# Altium footprint library con-erni.PCBLIB: 13 footprints (part 1 of 2)
Each footprint in its own frame and in the unit in brackets; x right, y up, seen from the top. Pads: shape width x height; smd on the part's side, far side on the other; paste and mask are expansions set on the pad; w line width, h text height; cw(c..) or ccw(c..) is an arc to the next point about the centre after c.
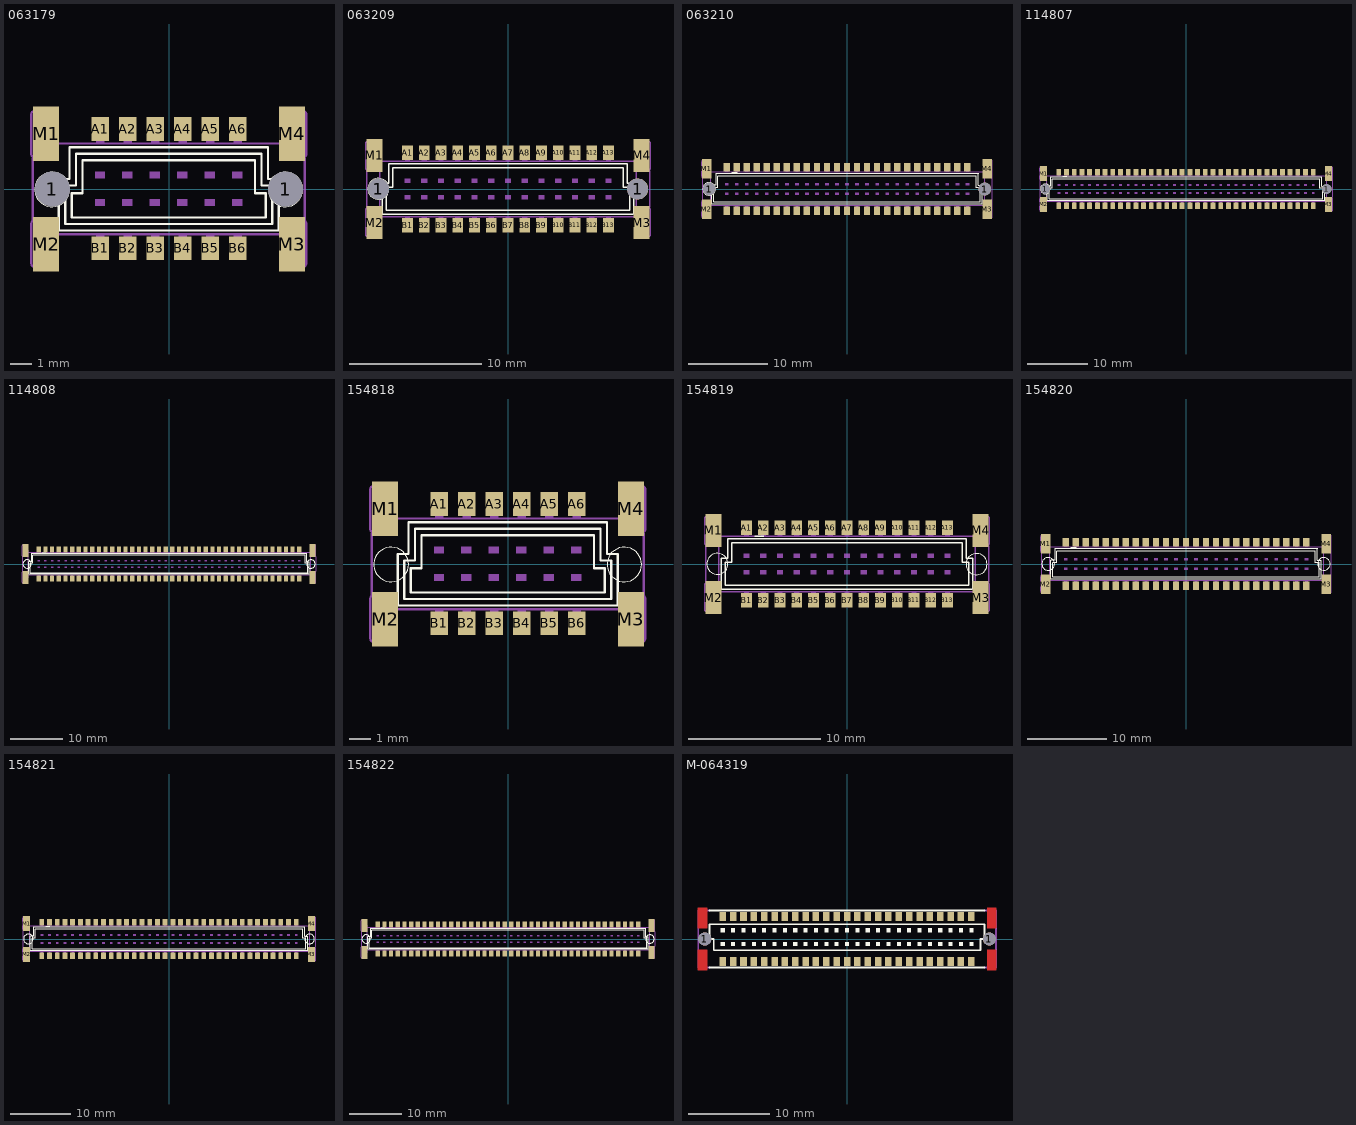
[diagram p0: the footprints below, top view; thin cyan lines are the x and y axes]

## 063179 [mil]
pads (18):
  round 62.99 hole 62.99: 1(-212.01,0) 1(212.01,0)
  rect 31.5x43.31 smd: A1(-125,108.86) A2(-75,108.86) A3(-25,108.86) A4(25,108.86) A5(75,108.86) A6(125,108.86) B1(-125,-107.87) B2(-75,-107.87) B3(-25,-107.87) B4(25,-107.87) B5(75,-107.87) B6(125,-107.87)
  rect 47.24x98.43 smd: M1(-223.62,100.39) M2(-223.62,-100.39) M3(223.62,-100.39) M4(223.62,100.39)
Top Overlay:
  circle w0.04: c211.54,-0.87 r31.49
  circle w0.04: c-212.42,-0.87 r31.49
  lines w4: -200.64,17.97 -200.64,-75.53 199.75,-75.53 199.75,17.97 ; -200.66,17.98 -180.97,17.98 ; -180.96,17.97 -180.96,76.04 179.86,76.04 ; -177.04,-7.62 -157.35,-7.62 -157.35,52.43 156.46,52.43 ; -177.02,-7.62 -177.02,-51.91 176.13,-51.91 176.13,-7.62 ; 156.45,52.42 156.45,-7.62 176.13,-7.62 ; 180.09,76.05 180.09,17.98 199.78,17.98 ; 176.15,-7.62 176.13,-7.62 ; -188.85,-63.73 187.96,-63.73 187.96,6.16 168.28,6.16 168.28,64.24 -169.16,64.24 -169.14,6.16 -188.85,6.16 -188.85,-63.73
Mechanical 16:
  region: 132.68,-84.25 116.93,-84.25 116.93,-117.72 132.68,-117.72
  region: -117.32,-84.25 -133.07,-84.25 -133.07,-117.72 -117.32,-117.72
  region: -116.34,-18.31 -135.04,-18.31 -135.04,-31.1 -116.34,-31.1
  region: -116.34,31.89 -135.04,31.89 -135.04,19.09 -116.34,19.09
  region: 132.68,118.5 116.93,118.5 116.93,84.45 132.68,84.45
  region: -117.32,118.5 -133.07,118.5 -133.07,84.45 -117.32,84.45
  region: -66.34,31.89 -85.04,31.89 -85.04,19.09 -66.34,19.09
  region: -16.34,31.89 -35.04,31.89 -35.04,19.09 -16.34,19.09
  region: 33.66,31.89 14.96,31.89 14.96,19.09 33.66,19.09
  region: 83.66,31.89 64.96,31.89 64.96,19.09 83.66,19.09
  region: 133.66,31.89 114.96,31.89 114.96,19.09 133.66,19.09
  region: -66.34,-18.31 -85.04,-18.31 -85.04,-31.1 -66.34,-31.1
  region: -16.34,-18.31 -35.04,-18.31 -35.04,-31.1 -16.34,-31.1
  region: 33.66,-18.31 14.96,-18.31 14.96,-31.1 33.66,-31.1
  region: 83.66,-18.31 64.96,-18.31 64.96,-31.1 83.66,-31.1
  region: 133.66,-18.31 114.96,-18.31 114.96,-31.1 133.66,-31.1
  region: -67.32,118.5 -83.07,118.5 -83.07,84.45 -67.32,84.45
  region: -17.32,118.5 -33.07,118.5 -33.07,84.45 -17.32,84.45
  region: 32.68,118.5 16.93,118.5 16.93,84.45 32.68,84.45
  region: 82.68,118.5 66.93,118.5 66.93,84.45 82.68,84.45
  region: -67.32,-84.25 -83.07,-84.25 -83.07,-117.72 -67.32,-117.72
  region: -17.32,-84.25 -33.07,-84.25 -33.07,-117.72 -17.32,-117.72
  region: 32.68,-84.25 16.93,-84.25 16.93,-117.72 32.68,-117.72
  region: 82.68,-84.25 66.93,-84.25 66.93,-117.72 82.68,-117.72
  lines w4: -247.91,-54.87 -247.91,55.38 ; -244.54,-56.83 ccw(c-244.53,-62.73) -250.44,-62.74 -250.44,-135.57 ccw(c-244.53,-135.57) -244.54,-141.48 -216.98,-141.48 ccw(c-216.98,-135.57) -211.07,-135.57 -211.07,-127.7 ccw(c-216.98,-127.7) -216.98,-121.79 ; -244.54,57.34 cw(c-244.53,63.24) -250.44,63.25 -250.44,136.08 cw(c-244.53,136.09) -244.54,141.99 -216.98,141.99 cw(c-216.98,136.08) -211.07,136.08 -211.07,128.21 cw(c-216.98,128.21) -216.98,122.3 ; -217,-121.68 cw(c-218.16,-115.89) -224.06,-115.89 -224.07,-109.98 -208.32,-109.98 -208.32,-66.67 ; -217,122.19 ccw(c-218.17,116.41) -224.06,116.4 -224.07,110.49 -208.32,110.49 -208.32,67.19 ; -204.2,-82.43 203.32,-82.43 ; -204.2,82.94 203.32,82.94 ; 207.43,-66.67 207.43,-109.98 223.18,-109.98 223.18,-115.89 cw(c217.28,-115.89) 216.11,-121.68 ; 207.43,67.19 207.43,110.49 223.18,110.49 223.18,116.4 ccw(c217.28,116.4) 216.11,122.19 ; 216.09,-121.79 ccw(c216.09,-127.69) 210.19,-127.7 210.19,-135.57 ccw(c216.09,-135.57) 216.09,-141.48 243.65,-141.48 ccw(c243.65,-135.57) 249.56,-135.57 249.56,-62.74 ccw(c243.65,-62.74) 243.65,-56.83 ; 216.09,122.3 cw(c216.09,128.21) 210.19,128.21 210.19,136.08 cw(c216.09,136.09) 216.09,141.99 243.65,141.99 cw(c243.65,136.08) 249.56,136.08 249.56,63.25 cw(c243.65,63.25) 243.65,57.34 ; 247.02,-54.87 247.02,55.38

## 063209 [mil]
pads (32):
  round 62.99 hole 62.99: 1(-387.01,0) 1(387.01,0)
  rect 31.5x43.31 smd: A1(-300,108.86) A2(-250,108.86) A3(-200,108.86) A4(-150,108.86) A5(-100,108.86) A6(-50,108.86) A7(0,108.86) A8(50,108.86) A9(100,108.86) A10(150,108.86) A11(200,108.86) A12(250,108.86) A13(300,108.86) B1(-300,-107.87) B2(-250,-107.87) B3(-200,-107.87) B4(-150,-107.87) B5(-100,-107.87) B6(-50,-107.87) B7(0,-107.87) B8(50,-107.87) B9(100,-107.87) B10(150,-107.87) B11(200,-107.87) B12(250,-107.87) B13(300,-107.87)
  rect 47.24x98.43 smd: M1(-398.62,100.39) M2(-398.62,-100.39) M3(398.62,-100.39) M4(398.62,100.39)
Top Overlay:
  circle w0.04: c-386.87,0.32 r31.5
  lines w4: -343.58,5.94 -363.23,5.94 ; -343.54,5.94 -343.54,64 343.43,64 ; 343.82,64.01 343.82,5.94 363.51,5.94 363.51,-63.94 ; 355.6,17.75 355.6,75.81 ; 355.63,17.75 375.32,17.75 375.32,-75.76 ; 355.63,75.82 -355.39,75.82 -355.39,17.75 -375.04,17.75 -375.04,-75.75 374.53,-75.75 ; 363.47,-63.94 -363.23,-63.94 -363.23,5.94 ; -363.23,5.94 -363.26,5.94
Mechanical 16:
  region: -290.35,-18.31 -309.06,-18.31 -309.06,-31.1 -290.35,-31.1
  region: -290.35,30.91 -309.06,30.91 -309.06,18.11 -290.35,18.11
  region: -240.35,-18.31 -259.06,-18.31 -259.06,-31.1 -240.35,-31.1
  region: -240.35,30.91 -259.06,30.91 -259.06,18.11 -240.35,18.11
  region: -190.35,-18.31 -209.06,-18.31 -209.06,-31.1 -190.35,-31.1
  region: -190.35,30.91 -209.06,30.91 -209.06,18.11 -190.35,18.11
  region: -140.35,-18.31 -159.06,-18.31 -159.06,-31.1 -140.35,-31.1
  region: -140.35,30.91 -159.06,30.91 -159.06,18.11 -140.35,18.11
  region: -90.35,-18.31 -109.06,-18.31 -109.06,-31.1 -90.35,-31.1
  region: -90.35,30.91 -109.06,30.91 -109.06,18.11 -90.35,18.11
  region: -40.35,-18.31 -59.06,-18.31 -59.06,-31.1 -40.35,-31.1
  region: -40.35,30.91 -59.06,30.91 -59.06,18.11 -40.35,18.11
  region: 9.65,-18.31 -9.06,-18.31 -9.06,-31.1 9.65,-31.1
  region: 9.65,30.91 -9.06,30.91 -9.06,18.11 9.65,18.11
  region: 59.65,-18.31 40.94,-18.31 40.94,-31.1 59.65,-31.1
  region: 59.65,30.91 40.94,30.91 40.94,18.11 59.65,18.11
  region: 109.65,-18.31 90.94,-18.31 90.94,-31.1 109.65,-31.1
  region: 109.65,30.91 90.94,30.91 90.94,18.11 109.65,18.11
  region: 159.65,-18.31 140.94,-18.31 140.94,-31.1 159.65,-31.1
  region: 159.65,30.91 140.94,30.91 140.94,18.11 159.65,18.11
  region: 209.65,-18.31 190.94,-18.31 190.94,-31.1 209.65,-31.1
  region: 209.65,30.91 190.94,30.91 190.94,18.11 209.65,18.11
  region: 259.65,-18.31 240.94,-18.31 240.94,-31.1 259.65,-31.1
  region: 259.65,30.91 240.94,30.91 240.94,18.11 259.65,18.11
  region: 309.65,-18.31 290.94,-18.31 290.94,-31.1 309.65,-31.1
  region: 309.65,30.91 290.94,30.91 290.94,18.11 309.65,18.11
  region: -291.93,-82.68 -307.68,-82.68 -307.68,-117.72 -291.93,-117.72
  region: -291.93,118.5 -307.68,118.5 -307.68,83.66 -291.93,83.66
  region: -241.93,-82.68 -257.68,-82.68 -257.68,-117.72 -241.93,-117.72
  region: -241.93,118.5 -257.68,118.5 -257.68,83.66 -241.93,83.66
  region: -191.93,-82.68 -207.68,-82.68 -207.68,-117.72 -191.93,-117.72
  region: -191.93,118.5 -207.68,118.5 -207.68,83.66 -191.93,83.66
  region: -141.93,-82.68 -157.68,-82.68 -157.68,-117.72 -141.93,-117.72
  region: -141.93,118.5 -157.68,118.5 -157.68,83.66 -141.93,83.66
  region: -91.93,-82.68 -107.68,-82.68 -107.68,-117.72 -91.93,-117.72
  region: -91.93,118.5 -107.68,118.5 -107.68,83.66 -91.93,83.66
  region: -41.93,-82.68 -57.68,-82.68 -57.68,-117.72 -41.93,-117.72
  region: -41.93,118.5 -57.68,118.5 -57.68,83.66 -41.93,83.66
  region: 8.07,-82.68 -7.68,-82.68 -7.68,-117.72 8.07,-117.72
  region: 8.07,118.5 -7.68,118.5 -7.68,83.66 8.07,83.66
  region: 58.07,-82.68 42.32,-82.68 42.32,-117.72 58.07,-117.72
  region: 58.07,118.5 42.32,118.5 42.32,83.66 58.07,83.66
  region: 108.07,-82.68 92.32,-82.68 92.32,-117.72 108.07,-117.72
  region: 108.07,118.5 92.32,118.5 92.32,83.66 108.07,83.66
  region: 158.07,-82.68 142.32,-82.68 142.32,-117.72 158.07,-117.72
  region: 158.07,118.5 142.32,118.5 142.32,83.66 158.07,83.66
  region: 208.07,-82.68 192.32,-82.68 192.32,-117.72 208.07,-117.72
  region: 208.07,118.5 192.32,118.5 192.32,83.66 208.07,83.66
  region: 258.07,-82.68 242.32,-82.68 242.32,-117.72 258.07,-117.72
  region: 258.07,118.5 242.32,118.5 242.32,83.66 258.07,83.66
  region: 308.07,-82.68 292.32,-82.68 292.32,-117.72 308.07,-117.72
  region: 308.07,118.5 292.32,118.5 292.32,83.66 308.07,83.66
  lines w4: -422.32,-55.09 -422.32,55.15 ; -419.17,-57.06 ccw(c-419.17,-62.96) -425.07,-62.96 -425.07,-135.8 ccw(c-419.17,-135.8) -419.17,-141.7 -391.61,-141.7 ccw(c-391.61,-135.79) -385.7,-135.8 -385.7,-127.92 ccw(c-391.61,-127.92) -391.61,-122.02 ; -419.17,57.12 cw(c-419.17,63.02) -425.07,63.02 -425.07,135.86 cw(c-419.17,135.86) -419.17,141.76 -391.61,141.76 cw(c-391.61,135.85) -385.7,135.86 -385.7,127.98 cw(c-391.61,127.98) -391.61,122.08 ; -392.79,-122.02 cw(c-392.79,-116.11) -392.79,-110.2 ; -392.79,110.27 cw(c-392.79,116.17) -392.79,122.08 ; -390.82,-110.2 -382.95,-102.33 -382.95,102.39 -390.82,110.27 ; -378.62,-82.65 378.86,-82.65 ; -378.62,82.71 378.86,82.71 ; 391.07,-110.2 383.19,-102.33 383.19,102.39 391.07,110.27 ; 391.85,-122.02 ccw(c391.85,-127.92) 385.95,-127.92 385.95,-135.8 ccw(c391.85,-135.8) 391.85,-141.7 419.41,-141.7 ccw(c419.42,-135.79) 425.32,-135.8 425.32,-62.96 ccw(c419.42,-62.97) 419.41,-57.06 ; 391.85,122.08 cw(c391.85,127.98) 385.95,127.98 385.95,135.86 cw(c391.85,135.86) 391.85,141.76 419.41,141.76 cw(c419.42,135.85) 425.32,135.86 425.32,63.02 cw(c419.42,63.02) 419.41,57.12 ; 393.04,-122.02 ccw(c393.04,-116.11) 393.04,-110.2 ; 393.04,110.27 ccw(c393.04,116.17) 393.04,122.08 ; 422.56,-55.09 422.56,55.15

## 063210 [mil]
pads (56):
  round 62.99 hole 62.99: 1(-687.01,0) 1(687.01,0)
  rect 31.5x43.31 smd: A1(-600,108.86) A2(-550,108.86) A3(-500,108.86) A4(-450,108.86) A5(-400,108.86) A6(-350,108.86) A7(-300,108.86) A8(-250,108.86) A9(-200,108.86) A10(-150,108.86) A11(-100,108.86) A12(-50,108.86) A13(0,108.86) A14(50,108.86) A15(100,108.86) A16(150,108.86) A17(200,108.86) A18(250,108.86) A19(300,108.86) A20(350,108.86) A21(400,108.86) A22(450,108.86) A23(500,108.86) A24(550,108.86) A25(600,108.86) B1(-600,-107.87) B2(-550,-107.87) B3(-500,-107.87) B4(-450,-107.87) B5(-400,-107.87) B6(-350,-107.87) B7(-300,-107.87) B8(-250,-107.87) B9(-200,-107.87) B10(-150,-107.87) B11(-100,-107.87) B12(-50,-107.87) B13(0,-107.87) B14(50,-107.87) B15(100,-107.87) B16(150,-107.87) B17(200,-107.87) B18(250,-107.87) B19(300,-107.87) B20(350,-107.87) B21(400,-107.87) B22(450,-107.87) B23(500,-107.87) B24(550,-107.87) B25(600,-107.87)
  rect 47.24x98.43 smd: M1(-698.62,100.39) M2(-698.62,-100.39) M3(698.62,-100.39) M4(698.62,100.39)
Top Overlay:
  circle w0.04: c-686.87,0.32 r31.5
  lines w4: -643.58,5.94 -663.23,5.94 ; -643.54,5.94 -643.54,64 643.43,64 ; -575.47,82.71 -547.91,82.71 ; 643.82,64.01 643.82,5.94 663.51,5.94 663.51,-63.94 ; 655.6,75.81 655.6,17.75 675.28,17.75 675.32,-75.76 ; 655.63,75.82 -655.39,75.82 -655.39,17.75 -675.04,17.75 -675.04,-75.75 674.53,-75.75 ; 663.47,-63.94 -663.23,-63.94 -663.23,5.94 ; -663.23,5.94 -663.26,5.94
Mechanical 16:
  region: -590.35,-18.31 -609.06,-18.31 -609.06,-31.1 -590.35,-31.1
  region: -590.35,30.91 -609.06,30.91 -609.06,18.11 -590.35,18.11
  region: -540.35,-18.31 -559.06,-18.31 -559.06,-31.1 -540.35,-31.1
  region: -540.35,30.91 -559.06,30.91 -559.06,18.11 -540.35,18.11
  region: -490.35,-18.31 -509.06,-18.31 -509.06,-31.1 -490.35,-31.1
  region: -490.35,30.91 -509.06,30.91 -509.06,18.11 -490.35,18.11
  region: -440.35,-18.31 -459.06,-18.31 -459.06,-31.1 -440.35,-31.1
  region: -440.35,30.91 -459.06,30.91 -459.06,18.11 -440.35,18.11
  region: -390.35,-18.31 -409.06,-18.31 -409.06,-31.1 -390.35,-31.1
  region: -390.35,30.91 -409.06,30.91 -409.06,18.11 -390.35,18.11
  region: -340.35,-18.31 -359.06,-18.31 -359.06,-31.1 -340.35,-31.1
  region: -340.35,30.91 -359.06,30.91 -359.06,18.11 -340.35,18.11
  region: -290.35,-18.31 -309.06,-18.31 -309.06,-31.1 -290.35,-31.1
  region: -290.35,30.91 -309.06,30.91 -309.06,18.11 -290.35,18.11
  region: -240.35,-18.31 -259.06,-18.31 -259.06,-31.1 -240.35,-31.1
  region: -240.35,30.91 -259.06,30.91 -259.06,18.11 -240.35,18.11
  region: -190.35,-18.31 -209.06,-18.31 -209.06,-31.1 -190.35,-31.1
  region: -190.35,30.91 -209.06,30.91 -209.06,18.11 -190.35,18.11
  region: -140.35,-18.31 -159.06,-18.31 -159.06,-31.1 -140.35,-31.1
  region: -140.35,30.91 -159.06,30.91 -159.06,18.11 -140.35,18.11
  region: -90.35,-18.31 -109.06,-18.31 -109.06,-31.1 -90.35,-31.1
  region: -90.35,30.91 -109.06,30.91 -109.06,18.11 -90.35,18.11
  region: -40.35,-18.31 -59.06,-18.31 -59.06,-31.1 -40.35,-31.1
  region: -40.35,30.91 -59.06,30.91 -59.06,18.11 -40.35,18.11
  region: 9.65,-18.31 -9.06,-18.31 -9.06,-31.1 9.65,-31.1
  region: 9.65,30.91 -9.06,30.91 -9.06,18.11 9.65,18.11
  region: 59.65,-18.31 40.94,-18.31 40.94,-31.1 59.65,-31.1
  region: 59.65,30.91 40.94,30.91 40.94,18.11 59.65,18.11
  region: 109.65,-18.31 90.94,-18.31 90.94,-31.1 109.65,-31.1
  region: 109.65,30.91 90.94,30.91 90.94,18.11 109.65,18.11
  region: 159.65,-18.31 140.94,-18.31 140.94,-31.1 159.65,-31.1
  region: 159.65,30.91 140.94,30.91 140.94,18.11 159.65,18.11
  region: 209.65,-18.31 190.94,-18.31 190.94,-31.1 209.65,-31.1
  region: 209.65,30.91 190.94,30.91 190.94,18.11 209.65,18.11
  region: 259.65,-18.31 240.94,-18.31 240.94,-31.1 259.65,-31.1
  region: 259.65,30.91 240.94,30.91 240.94,18.11 259.65,18.11
  region: 309.65,-18.31 290.94,-18.31 290.94,-31.1 309.65,-31.1
  region: 309.65,30.91 290.94,30.91 290.94,18.11 309.65,18.11
  region: 359.65,-18.31 340.94,-18.31 340.94,-31.1 359.65,-31.1
  region: 359.65,30.91 340.94,30.91 340.94,18.11 359.65,18.11
  region: 409.65,-18.31 390.94,-18.31 390.94,-31.1 409.65,-31.1
  region: 409.65,30.91 390.94,30.91 390.94,18.11 409.65,18.11
  region: 459.65,-18.31 440.94,-18.31 440.94,-31.1 459.65,-31.1
  region: 459.65,30.91 440.94,30.91 440.94,18.11 459.65,18.11
  region: 509.65,-18.31 490.94,-18.31 490.94,-31.1 509.65,-31.1
  region: 509.65,30.91 490.94,30.91 490.94,18.11 509.65,18.11
  region: 559.65,-18.31 540.94,-18.31 540.94,-31.1 559.65,-31.1
  region: 559.65,30.91 540.94,30.91 540.94,18.11 559.65,18.11
  region: 609.65,-18.31 590.94,-18.31 590.94,-31.1 609.65,-31.1
  region: 609.65,30.91 590.94,30.91 590.94,18.11 609.65,18.11
  region: -591.93,-82.68 -607.68,-82.68 -607.68,-117.72 -591.93,-117.72
  region: -591.93,118.5 -607.68,118.5 -607.68,83.66 -591.93,83.66
  region: -541.93,-82.68 -557.68,-82.68 -557.68,-117.72 -541.93,-117.72
  region: -541.93,118.5 -557.68,118.5 -557.68,83.66 -541.93,83.66
  region: -491.93,-82.68 -507.68,-82.68 -507.68,-117.72 -491.93,-117.72
  region: -491.93,118.5 -507.68,118.5 -507.68,83.66 -491.93,83.66
  region: -441.93,-82.68 -457.68,-82.68 -457.68,-117.72 -441.93,-117.72
  region: -441.93,118.5 -457.68,118.5 -457.68,83.66 -441.93,83.66
  region: -391.93,-82.68 -407.68,-82.68 -407.68,-117.72 -391.93,-117.72
  region: -391.93,118.5 -407.68,118.5 -407.68,83.66 -391.93,83.66
  region: -341.93,-82.68 -357.68,-82.68 -357.68,-117.72 -341.93,-117.72
  region: -341.93,118.5 -357.68,118.5 -357.68,83.66 -341.93,83.66
  region: -291.93,-82.68 -307.68,-82.68 -307.68,-117.72 -291.93,-117.72
  region: -291.93,118.5 -307.68,118.5 -307.68,83.66 -291.93,83.66
  region: -241.93,-82.68 -257.68,-82.68 -257.68,-117.72 -241.93,-117.72
  region: -241.93,118.5 -257.68,118.5 -257.68,83.66 -241.93,83.66
  region: -191.93,-82.68 -207.68,-82.68 -207.68,-117.72 -191.93,-117.72
  region: -191.93,118.5 -207.68,118.5 -207.68,83.66 -191.93,83.66
  region: -141.93,-82.68 -157.68,-82.68 -157.68,-117.72 -141.93,-117.72
  region: -141.93,118.5 -157.68,118.5 -157.68,83.66 -141.93,83.66
  region: -91.93,-82.68 -107.68,-82.68 -107.68,-117.72 -91.93,-117.72
  region: -91.93,118.5 -107.68,118.5 -107.68,83.66 -91.93,83.66
  region: -41.93,-82.68 -57.68,-82.68 -57.68,-117.72 -41.93,-117.72
  region: -41.93,118.5 -57.68,118.5 -57.68,83.66 -41.93,83.66
  region: 8.07,-82.68 -7.68,-82.68 -7.68,-117.72 8.07,-117.72
  region: 8.07,118.5 -7.68,118.5 -7.68,83.66 8.07,83.66
  region: 58.07,-82.68 42.32,-82.68 42.32,-117.72 58.07,-117.72
  region: 58.07,118.5 42.32,118.5 42.32,83.66 58.07,83.66
  region: 108.07,-82.68 92.32,-82.68 92.32,-117.72 108.07,-117.72
  region: 108.07,118.5 92.32,118.5 92.32,83.66 108.07,83.66
  region: 158.07,-82.68 142.32,-82.68 142.32,-117.72 158.07,-117.72
  region: 158.07,118.5 142.32,118.5 142.32,83.66 158.07,83.66
  region: 208.07,-82.68 192.32,-82.68 192.32,-117.72 208.07,-117.72
  region: 208.07,118.5 192.32,118.5 192.32,83.66 208.07,83.66
  region: 258.07,-82.68 242.32,-82.68 242.32,-117.72 258.07,-117.72
  region: 258.07,118.5 242.32,118.5 242.32,83.66 258.07,83.66
  region: 308.07,-82.68 292.32,-82.68 292.32,-117.72 308.07,-117.72
  region: 308.07,118.5 292.32,118.5 292.32,83.66 308.07,83.66
  region: 358.07,-82.68 342.32,-82.68 342.32,-117.72 358.07,-117.72
  region: 358.07,118.5 342.32,118.5 342.32,83.66 358.07,83.66
  region: 408.07,-82.68 392.32,-82.68 392.32,-117.72 408.07,-117.72
  region: 408.07,118.5 392.32,118.5 392.32,83.66 408.07,83.66
  region: 458.07,-82.68 442.32,-82.68 442.32,-117.72 458.07,-117.72
  region: 458.07,118.5 442.32,118.5 442.32,83.66 458.07,83.66
  region: 508.07,-82.68 492.32,-82.68 492.32,-117.72 508.07,-117.72
  region: 508.07,118.5 492.32,118.5 492.32,83.66 508.07,83.66
  region: 558.07,-82.68 542.32,-82.68 542.32,-117.72 558.07,-117.72
  region: 558.07,118.5 542.32,118.5 542.32,83.66 558.07,83.66
  region: 608.07,-82.68 592.32,-82.68 592.32,-117.72 608.07,-117.72
  region: 608.07,118.5 592.32,118.5 592.32,83.66 608.07,83.66
  lines w4: -722.32,-55.09 -722.32,55.15 ; -719.17,-57.06 ccw(c-719.17,-62.96) -725.07,-62.96 -725.07,-135.8 ccw(c-719.17,-135.8) -719.17,-141.7 -691.61,-141.7 ccw(c-691.61,-135.79) -685.7,-135.8 -685.7,-127.92 ccw(c-691.61,-127.92) -691.61,-122.02 ; -719.17,57.12 cw(c-719.17,63.02) -725.07,63.02 -725.07,135.86 cw(c-719.17,135.86) -719.17,141.76 -691.61,141.76 cw(c-691.61,135.85) -685.7,135.86 -685.7,127.98 cw(c-691.61,127.98) -691.61,122.08 ; -692.79,-122.02 cw(c-692.79,-116.11) -692.79,-110.2 ; -692.79,110.27 cw(c-692.79,116.17) -692.79,122.08 ; -690.82,-110.2 -682.95,-102.33 -682.95,102.39 -690.82,110.27 ; -678.62,-82.65 678.86,-82.65 ; -678.62,82.71 678.86,82.71 ; 691.07,-110.2 683.19,-102.33 683.19,102.39 691.07,110.27 ; 691.85,-122.02 ccw(c691.85,-127.92) 685.95,-127.92 685.95,-135.8 ccw(c691.85,-135.8) 691.85,-141.7 719.41,-141.7 ccw(c719.41,-135.79) 725.32,-135.8 725.32,-62.96 ccw(c719.41,-62.97) 719.41,-57.06 ; 691.85,122.08 cw(c691.85,127.98) 685.95,127.98 685.95,135.86 cw(c691.85,135.86) 691.85,141.76 719.41,141.76 cw(c719.41,135.85) 725.32,135.86 725.32,63.02 cw(c719.41,63.02) 719.41,57.12 ; 693.04,-122.02 ccw(c693.04,-116.11) 693.04,-110.2 ; 693.04,110.27 ccw(c693.04,116.17) 693.04,122.08 ; 722.56,-55.09 722.56,55.15

## 114807 [mil]
pads (74):
  round 62.99 hole 62.99: 1(-912.01,0) 1(912.01,0)
  rect 31.5x43.31 smd: A1(-825,108.86) A2(-775,108.86) A3(-725,108.86) A4(-675,108.86) A5(-625,108.86) A6(-575,108.86) A7(-525,108.86) A8(-475,108.86) A9(-425,108.86) A10(-375,108.86) A11(-325,108.86) A12(-275,108.86) A13(-225,108.86) A14(-175,108.86) A15(-125,108.86) A16(-75,108.86) A17(-25,108.86) A18(25,108.86) A19(75,108.86) A20(125,108.86) A21(175,108.86) A22(225,108.86) A23(275,108.86) A24(325,108.86) A25(375,108.86) A26(425,108.86) A27(475,108.86) A28(525,108.86) A29(575,108.86) A30(625,108.86) A31(675,108.86) A32(725,108.86) A33(775,108.86) A34(825,108.86) B1(-825,-107.87) B2(-775,-107.87) B3(-725,-107.87) B4(-675,-107.87) B5(-625,-107.87) B6(-575,-107.87) B7(-525,-107.87) B8(-475,-107.87) B9(-425,-107.87) B10(-375,-107.87) B11(-325,-107.87) B12(-275,-107.87) B13(-225,-107.87) B14(-175,-107.87) B15(-125,-107.87) B16(-75,-107.87) B17(-25,-107.87) B18(25,-107.87) B19(75,-107.87) B20(125,-107.87) B21(175,-107.87) B22(225,-107.87) B23(275,-107.87) B24(325,-107.87) B25(375,-107.87) B26(425,-107.87) B27(475,-107.87) B28(525,-107.87) B29(575,-107.87) B30(625,-107.87) B31(675,-107.87) B32(725,-107.87) B33(775,-107.87) B34(825,-107.87)
  rect 47.24x98.43 smd: M1(-923.62,100.39) M2(-923.62,-100.39) M3(923.62,-100.39) M4(923.62,100.39)
Top Overlay:
  circle w0.04: c-911.87,0.32 r31.5
  lines w4: -868.58,5.94 -888.23,5.94 ; -868.54,5.94 -868.54,64 868.43,64 ; -800.47,82.71 -772.91,82.71 ; 868.82,64.01 868.82,5.94 888.51,5.94 888.51,-63.94 ; 880.6,75.81 880.6,17.75 900.28,17.75 900.32,-75.76 ; 880.63,75.82 -880.39,75.82 -880.39,17.75 -900.04,17.75 -900.04,-75.75 899.53,-75.75 ; 888.47,-63.94 -888.23,-63.94 -888.23,5.94 ; -888.23,5.94 -888.26,5.94
Mechanical 16:
  drawing of 178 lines, arcs and shapes, not listed

## 114808 [mil]
pads (84):
  rect 31.5x43.31 smd: A1(-975,108.86) A2(-925,108.86) A3(-875,108.86) A4(-825,108.86) A5(-775,108.86) A6(-725,108.86) A7(-675,108.86) A8(-625,108.86) A9(-575,108.86) A10(-525,108.86) A11(-475,108.86) A12(-425,108.86) A13(-375,108.86) A14(-325,108.86) A15(-275,108.86) A16(-225,108.86) A17(-175,108.86) A18(-125,108.86) A19(-75,108.86) A20(-25,108.86) A21(25,108.86) A22(75,108.86) A23(125,108.86) A24(175,108.86) A25(225,108.86) A26(275,108.86) A27(325,108.86) A28(375,108.86) A29(425,108.86) A30(475,108.86) A31(525,108.86) A32(575,108.86) A33(625,108.86) A34(675,108.86) A35(725,108.86) A36(775,108.86) A37(825,108.86) A38(875,108.86) A39(925,108.86) A40(975,108.86) B1(-975,-107.87) B2(-925,-107.87) B3(-875,-107.87) B4(-825,-107.87) B5(-775,-107.87) B6(-725,-107.87) B7(-675,-107.87) B8(-625,-107.87) B9(-575,-107.87) B10(-525,-107.87) B11(-475,-107.87) B12(-425,-107.87) B13(-375,-107.87) B14(-325,-107.87) B15(-275,-107.87) B16(-225,-107.87) B17(-175,-107.87) B18(-125,-107.87) B19(-75,-107.87) B20(-25,-107.87) B21(25,-107.87) B22(75,-107.87) B23(125,-107.87) B24(175,-107.87) B25(225,-107.87) B26(275,-107.87) B27(325,-107.87) B28(375,-107.87) B29(425,-107.87) B30(475,-107.87) B31(525,-107.87) B32(575,-107.87) B33(625,-107.87) B34(675,-107.87) B35(725,-107.87) B36(775,-107.87) B37(825,-107.87) B38(875,-107.87) B39(925,-107.87) B40(975,-107.87)
  rect 47.24x98.43 smd: M1(-1073.62,100.39) M2(-1073.62,-100.39) M3(1073.62,-100.39) M4(1073.62,100.39)
Top Overlay:
  circle w0.04: c-1061.87,0.32 r31.5
  circle w0.04: c1061.87,-0.32 r31.5
  lines w4: -1018.58,5.94 -1038.23,5.94 ; -1018.54,5.94 -1018.54,64 1018.43,64 ; -950.47,82.71 -922.91,82.71 ; 1018.82,64.01 1018.82,5.94 1038.51,5.94 1038.51,-63.94 ; 1030.6,75.81 1030.6,17.75 1050.28,17.75 1050.32,-75.76 ; 1030.63,75.82 -1030.39,75.82 -1030.39,17.75 -1050.04,17.75 -1050.04,-75.75 1049.53,-75.75 ; 1038.47,-63.94 -1038.23,-63.94 -1038.23,5.94 ; -1038.23,5.94 -1038.26,5.94
Mechanical 16:
  drawing of 202 lines, arcs and shapes, not listed

## 154818 [mil]
pads (16):
  rect 31.5x43.31 smd: A1(-125,108.86) A2(-75,108.86) A3(-25,108.86) A4(25,108.86) A5(75,108.86) A6(125,108.86) B1(-125,-107.87) B2(-75,-107.87) B3(-25,-107.87) B4(25,-107.87) B5(75,-107.87) B6(125,-107.87)
  rect 47.24x98.43 smd: M1(-223.62,100.39) M2(-223.62,-100.39) M3(223.62,-100.39) M4(223.62,100.39)
Top Overlay:
  circle w0.04: c211.54,-0.87 r31.49
  circle w0.04: c-212.42,-0.87 r31.49
  lines w4: -200.64,17.97 -200.64,-75.53 199.75,-75.53 199.75,17.97 ; -200.66,17.98 -180.97,17.98 ; -180.96,17.97 -180.96,76.04 179.86,76.04 ; -177.04,-7.62 -157.35,-7.62 -157.35,52.43 156.46,52.43 ; -177.02,-7.62 -177.02,-51.91 176.13,-51.91 176.13,-7.62 ; 156.45,52.42 156.45,-7.62 176.13,-7.62 ; 180.09,76.05 180.09,17.98 199.78,17.98 ; 176.15,-7.62 176.13,-7.62 ; -188.85,-63.73 187.96,-63.73 187.96,6.16 168.28,6.16 168.28,64.24 -169.16,64.24 -169.14,6.16 -188.85,6.16 -188.85,-63.73
Mechanical 16:
  region: 132.68,-84.25 116.93,-84.25 116.93,-117.72 132.68,-117.72
  region: -117.32,-84.25 -133.07,-84.25 -133.07,-117.72 -117.32,-117.72
  region: -116.34,-18.31 -135.04,-18.31 -135.04,-31.1 -116.34,-31.1
  region: -116.34,31.89 -135.04,31.89 -135.04,19.09 -116.34,19.09
  region: 132.68,118.5 116.93,118.5 116.93,84.45 132.68,84.45
  region: -117.32,118.5 -133.07,118.5 -133.07,84.45 -117.32,84.45
  region: -66.34,31.89 -85.04,31.89 -85.04,19.09 -66.34,19.09
  region: -16.34,31.89 -35.04,31.89 -35.04,19.09 -16.34,19.09
  region: 33.66,31.89 14.96,31.89 14.96,19.09 33.66,19.09
  region: 83.66,31.89 64.96,31.89 64.96,19.09 83.66,19.09
  region: 133.66,31.89 114.96,31.89 114.96,19.09 133.66,19.09
  region: -66.34,-18.31 -85.04,-18.31 -85.04,-31.1 -66.34,-31.1
  region: -16.34,-18.31 -35.04,-18.31 -35.04,-31.1 -16.34,-31.1
  region: 33.66,-18.31 14.96,-18.31 14.96,-31.1 33.66,-31.1
  region: 83.66,-18.31 64.96,-18.31 64.96,-31.1 83.66,-31.1
  region: 133.66,-18.31 114.96,-18.31 114.96,-31.1 133.66,-31.1
  region: -67.32,118.5 -83.07,118.5 -83.07,84.45 -67.32,84.45
  region: -17.32,118.5 -33.07,118.5 -33.07,84.45 -17.32,84.45
  region: 32.68,118.5 16.93,118.5 16.93,84.45 32.68,84.45
  region: 82.68,118.5 66.93,118.5 66.93,84.45 82.68,84.45
  region: -67.32,-84.25 -83.07,-84.25 -83.07,-117.72 -67.32,-117.72
  region: -17.32,-84.25 -33.07,-84.25 -33.07,-117.72 -17.32,-117.72
  region: 32.68,-84.25 16.93,-84.25 16.93,-117.72 32.68,-117.72
  region: 82.68,-84.25 66.93,-84.25 66.93,-117.72 82.68,-117.72
  lines w4: -247.91,-54.87 -247.91,55.38 ; -244.54,-56.83 ccw(c-244.53,-62.73) -250.44,-62.74 -250.44,-135.57 ccw(c-244.53,-135.57) -244.54,-141.48 -216.98,-141.48 ccw(c-216.98,-135.57) -211.07,-135.57 -211.07,-127.7 ccw(c-216.98,-127.7) -216.98,-121.79 ; -244.54,57.34 cw(c-244.53,63.24) -250.44,63.25 -250.44,136.08 cw(c-244.53,136.09) -244.54,141.99 -216.98,141.99 cw(c-216.98,136.08) -211.07,136.08 -211.07,128.21 cw(c-216.98,128.21) -216.98,122.3 ; -217,-121.68 cw(c-218.16,-115.89) -224.06,-115.89 -224.07,-109.98 -208.32,-109.98 -208.32,-66.67 ; -217,122.19 ccw(c-218.17,116.42) -224.06,116.4 -224.07,110.49 -208.32,110.49 -208.32,67.19 ; -204.2,-82.43 203.32,-82.43 ; -204.2,82.94 203.32,82.94 ; 207.43,-66.67 207.43,-109.98 223.18,-109.98 223.18,-115.89 cw(c217.28,-115.89) 216.11,-121.68 ; 207.43,67.19 207.43,110.49 223.18,110.49 223.18,116.4 ccw(c217.28,116.4) 216.11,122.19 ; 216.09,-121.79 ccw(c216.09,-127.69) 210.19,-127.7 210.19,-135.57 ccw(c216.09,-135.57) 216.09,-141.48 243.65,-141.48 ccw(c243.65,-135.57) 249.56,-135.57 249.56,-62.74 ccw(c243.65,-62.74) 243.65,-56.83 ; 216.09,122.3 cw(c216.09,128.21) 210.19,128.21 210.19,136.08 cw(c216.09,136.09) 216.09,141.99 243.65,141.99 cw(c243.65,136.08) 249.56,136.08 249.56,63.25 cw(c243.65,63.25) 243.65,57.34 ; 247.02,-54.87 247.02,55.38

## 154819 [mil]
pads (30):
  rect 31.5x43.31 smd: A1(-300,108.86) A2(-250,108.86) A3(-200,108.86) A4(-150,108.86) A5(-100,108.86) A6(-50,108.86) A7(0,108.86) A8(50,108.86) A9(100,108.86) A10(150,108.86) A11(200,108.86) A12(250,108.86) A13(300,108.86) B1(-300,-107.87) B2(-250,-107.87) B3(-200,-107.87) B4(-150,-107.87) B5(-100,-107.87) B6(-50,-107.87) B7(0,-107.87) B8(50,-107.87) B9(100,-107.87) B10(150,-107.87) B11(200,-107.87) B12(250,-107.87) B13(300,-107.87)
  rect 47.24x98.43 smd: M1(-398.62,100.39) M2(-398.62,-100.39) M3(398.62,-100.39) M4(398.62,100.39)
Top Overlay:
  circle w0.04: c-386.87,0.32 r31.5
  circle w0.04: c386.87,-0.32 r31.5
  lines w4: -343.58,5.94 -363.23,5.94 ; -343.54,5.94 -343.54,64 343.43,64 ; -275.47,82.71 -247.91,82.71 ; 343.82,64.01 343.82,5.94 363.51,5.94 363.51,-63.94 ; 355.6,75.81 355.6,17.75 375.28,17.75 375.32,-75.76 ; 355.63,75.82 -355.39,75.82 -355.39,17.75 -375.04,17.75 -375.04,-75.75 374.53,-75.75 ; 363.47,-63.94 -363.23,-63.94 -363.23,5.94 ; -363.23,5.94 -363.26,5.94
Mechanical 16:
  region: -290.35,-18.31 -309.06,-18.31 -309.06,-31.1 -290.35,-31.1
  region: -290.35,30.91 -309.06,30.91 -309.06,18.11 -290.35,18.11
  region: -240.35,-18.31 -259.06,-18.31 -259.06,-31.1 -240.35,-31.1
  region: -240.35,30.91 -259.06,30.91 -259.06,18.11 -240.35,18.11
  region: -190.35,-18.31 -209.06,-18.31 -209.06,-31.1 -190.35,-31.1
  region: -190.35,30.91 -209.06,30.91 -209.06,18.11 -190.35,18.11
  region: -140.35,-18.31 -159.06,-18.31 -159.06,-31.1 -140.35,-31.1
  region: -140.35,30.91 -159.06,30.91 -159.06,18.11 -140.35,18.11
  region: -90.35,-18.31 -109.06,-18.31 -109.06,-31.1 -90.35,-31.1
  region: -90.35,30.91 -109.06,30.91 -109.06,18.11 -90.35,18.11
  region: -40.35,-18.31 -59.06,-18.31 -59.06,-31.1 -40.35,-31.1
  region: -40.35,30.91 -59.06,30.91 -59.06,18.11 -40.35,18.11
  region: 9.65,-18.31 -9.06,-18.31 -9.06,-31.1 9.65,-31.1
  region: 9.65,30.91 -9.06,30.91 -9.06,18.11 9.65,18.11
  region: 59.65,-18.31 40.94,-18.31 40.94,-31.1 59.65,-31.1
  region: 59.65,30.91 40.94,30.91 40.94,18.11 59.65,18.11
  region: 109.65,-18.31 90.94,-18.31 90.94,-31.1 109.65,-31.1
  region: 109.65,30.91 90.94,30.91 90.94,18.11 109.65,18.11
  region: 159.65,-18.31 140.94,-18.31 140.94,-31.1 159.65,-31.1
  region: 159.65,30.91 140.94,30.91 140.94,18.11 159.65,18.11
  region: 209.65,-18.31 190.94,-18.31 190.94,-31.1 209.65,-31.1
  region: 209.65,30.91 190.94,30.91 190.94,18.11 209.65,18.11
  region: 259.65,-18.31 240.94,-18.31 240.94,-31.1 259.65,-31.1
  region: 259.65,30.91 240.94,30.91 240.94,18.11 259.65,18.11
  region: 309.65,-18.31 290.94,-18.31 290.94,-31.1 309.65,-31.1
  region: 309.65,30.91 290.94,30.91 290.94,18.11 309.65,18.11
  region: -291.93,-82.68 -307.68,-82.68 -307.68,-117.72 -291.93,-117.72
  region: -291.93,118.5 -307.68,118.5 -307.68,83.66 -291.93,83.66
  region: -241.93,-82.68 -257.68,-82.68 -257.68,-117.72 -241.93,-117.72
  region: -241.93,118.5 -257.68,118.5 -257.68,83.66 -241.93,83.66
  region: -191.93,-82.68 -207.68,-82.68 -207.68,-117.72 -191.93,-117.72
  region: -191.93,118.5 -207.68,118.5 -207.68,83.66 -191.93,83.66
  region: -141.93,-82.68 -157.68,-82.68 -157.68,-117.72 -141.93,-117.72
  region: -141.93,118.5 -157.68,118.5 -157.68,83.66 -141.93,83.66
  region: -91.93,-82.68 -107.68,-82.68 -107.68,-117.72 -91.93,-117.72
  region: -91.93,118.5 -107.68,118.5 -107.68,83.66 -91.93,83.66
  region: -41.93,-82.68 -57.68,-82.68 -57.68,-117.72 -41.93,-117.72
  region: -41.93,118.5 -57.68,118.5 -57.68,83.66 -41.93,83.66
  region: 8.07,-82.68 -7.68,-82.68 -7.68,-117.72 8.07,-117.72
  region: 8.07,118.5 -7.68,118.5 -7.68,83.66 8.07,83.66
  region: 58.07,-82.68 42.32,-82.68 42.32,-117.72 58.07,-117.72
  region: 58.07,118.5 42.32,118.5 42.32,83.66 58.07,83.66
  region: 108.07,-82.68 92.32,-82.68 92.32,-117.72 108.07,-117.72
  region: 108.07,118.5 92.32,118.5 92.32,83.66 108.07,83.66
  region: 158.07,-82.68 142.32,-82.68 142.32,-117.72 158.07,-117.72
  region: 158.07,118.5 142.32,118.5 142.32,83.66 158.07,83.66
  region: 208.07,-82.68 192.32,-82.68 192.32,-117.72 208.07,-117.72
  region: 208.07,118.5 192.32,118.5 192.32,83.66 208.07,83.66
  region: 258.07,-82.68 242.32,-82.68 242.32,-117.72 258.07,-117.72
  region: 258.07,118.5 242.32,118.5 242.32,83.66 258.07,83.66
  region: 308.07,-82.68 292.32,-82.68 292.32,-117.72 308.07,-117.72
  region: 308.07,118.5 292.32,118.5 292.32,83.66 308.07,83.66
  lines w4: -422.32,-55.09 -422.32,55.15 ; -419.17,-57.06 ccw(c-419.17,-62.96) -425.07,-62.96 -425.07,-135.8 ccw(c-419.17,-135.8) -419.17,-141.7 -391.61,-141.7 ccw(c-391.61,-135.79) -385.7,-135.8 -385.7,-127.92 ccw(c-391.61,-127.92) -391.61,-122.02 ; -419.17,57.12 cw(c-419.17,63.02) -425.07,63.02 -425.07,135.86 cw(c-419.17,135.86) -419.17,141.76 -391.61,141.76 cw(c-391.61,135.85) -385.7,135.86 -385.7,127.98 cw(c-391.61,127.98) -391.61,122.08 ; -392.79,-122.02 cw(c-392.79,-116.11) -392.79,-110.2 ; -392.79,110.27 cw(c-392.79,116.17) -392.79,122.08 ; -390.82,-110.2 -382.95,-102.33 -382.95,102.39 -390.82,110.27 ; -378.62,-82.65 378.86,-82.65 ; -378.62,82.71 378.86,82.71 ; 391.07,-110.2 383.19,-102.33 383.19,102.39 391.07,110.27 ; 391.85,-122.02 ccw(c391.85,-127.92) 385.95,-127.92 385.95,-135.8 ccw(c391.85,-135.8) 391.85,-141.7 419.41,-141.7 ccw(c419.42,-135.79) 425.32,-135.8 425.32,-62.96 ccw(c419.42,-62.97) 419.41,-57.06 ; 391.85,122.08 cw(c391.85,127.98) 385.95,127.98 385.95,135.86 cw(c391.85,135.86) 391.85,141.76 419.41,141.76 cw(c419.42,135.85) 425.32,135.86 425.32,63.02 cw(c419.42,63.02) 419.41,57.12 ; 393.04,-122.02 ccw(c393.04,-116.11) 393.04,-110.2 ; 393.04,110.27 ccw(c393.04,116.17) 393.04,122.08 ; 422.56,-55.09 422.56,55.15

## 154820 [mil]
pads (54):
  rect 31.5x43.31 smd: A1(-600,108.86) A2(-550,108.86) A3(-500,108.86) A4(-450,108.86) A5(-400,108.86) A6(-350,108.86) A7(-300,108.86) A8(-250,108.86) A9(-200,108.86) A10(-150,108.86) A11(-100,108.86) A12(-50,108.86) A13(0,108.86) A14(50,108.86) A15(100,108.86) A16(150,108.86) A17(200,108.86) A18(250,108.86) A19(300,108.86) A20(350,108.86) A21(400,108.86) A22(450,108.86) A23(500,108.86) A24(550,108.86) A25(600,108.86) B1(-600,-107.87) B2(-550,-107.87) B3(-500,-107.87) B4(-450,-107.87) B5(-400,-107.87) B6(-350,-107.87) B7(-300,-107.87) B8(-250,-107.87) B9(-200,-107.87) B10(-150,-107.87) B11(-100,-107.87) B12(-50,-107.87) B13(0,-107.87) B14(50,-107.87) B15(100,-107.87) B16(150,-107.87) B17(200,-107.87) B18(250,-107.87) B19(300,-107.87) B20(350,-107.87) B21(400,-107.87) B22(450,-107.87) B23(500,-107.87) B24(550,-107.87) B25(600,-107.87)
  rect 47.24x98.43 smd: M1(-698.62,100.39) M2(-698.62,-100.39) M3(698.62,-100.39) M4(698.62,100.39)
Top Overlay:
  circle w0.04: c687.13,0.32 r31.5
  circle w0.04: c-686.87,0.32 r31.5
  lines w4: -643.58,5.94 -663.23,5.94 ; -643.54,5.94 -643.54,64 643.43,64 ; -575.47,82.71 -547.91,82.71 ; 643.82,64.01 643.82,5.94 663.51,5.94 663.51,-63.94 ; 655.6,75.81 655.6,17.75 675.28,17.75 675.32,-75.76 ; 655.63,75.82 -655.39,75.82 -655.39,17.75 -675.04,17.75 -675.04,-75.75 674.53,-75.75 ; 663.47,-63.94 -663.23,-63.94 -663.23,5.94 ; -663.23,5.94 -663.26,5.94
Mechanical 16:
  region: -590.35,-18.31 -609.06,-18.31 -609.06,-31.1 -590.35,-31.1
  region: -590.35,30.91 -609.06,30.91 -609.06,18.11 -590.35,18.11
  region: -540.35,-18.31 -559.06,-18.31 -559.06,-31.1 -540.35,-31.1
  region: -540.35,30.91 -559.06,30.91 -559.06,18.11 -540.35,18.11
  region: -490.35,-18.31 -509.06,-18.31 -509.06,-31.1 -490.35,-31.1
  region: -490.35,30.91 -509.06,30.91 -509.06,18.11 -490.35,18.11
  region: -440.35,-18.31 -459.06,-18.31 -459.06,-31.1 -440.35,-31.1
  region: -440.35,30.91 -459.06,30.91 -459.06,18.11 -440.35,18.11
  region: -390.35,-18.31 -409.06,-18.31 -409.06,-31.1 -390.35,-31.1
  region: -390.35,30.91 -409.06,30.91 -409.06,18.11 -390.35,18.11
  region: -340.35,-18.31 -359.06,-18.31 -359.06,-31.1 -340.35,-31.1
  region: -340.35,30.91 -359.06,30.91 -359.06,18.11 -340.35,18.11
  region: -290.35,-18.31 -309.06,-18.31 -309.06,-31.1 -290.35,-31.1
  region: -290.35,30.91 -309.06,30.91 -309.06,18.11 -290.35,18.11
  region: -240.35,-18.31 -259.06,-18.31 -259.06,-31.1 -240.35,-31.1
  region: -240.35,30.91 -259.06,30.91 -259.06,18.11 -240.35,18.11
  region: -190.35,-18.31 -209.06,-18.31 -209.06,-31.1 -190.35,-31.1
  region: -190.35,30.91 -209.06,30.91 -209.06,18.11 -190.35,18.11
  region: -140.35,-18.31 -159.06,-18.31 -159.06,-31.1 -140.35,-31.1
  region: -140.35,30.91 -159.06,30.91 -159.06,18.11 -140.35,18.11
  region: -90.35,-18.31 -109.06,-18.31 -109.06,-31.1 -90.35,-31.1
  region: -90.35,30.91 -109.06,30.91 -109.06,18.11 -90.35,18.11
  region: -40.35,-18.31 -59.06,-18.31 -59.06,-31.1 -40.35,-31.1
  region: -40.35,30.91 -59.06,30.91 -59.06,18.11 -40.35,18.11
  region: 9.65,-18.31 -9.06,-18.31 -9.06,-31.1 9.65,-31.1
  region: 9.65,30.91 -9.06,30.91 -9.06,18.11 9.65,18.11
  region: 59.65,-18.31 40.94,-18.31 40.94,-31.1 59.65,-31.1
  region: 59.65,30.91 40.94,30.91 40.94,18.11 59.65,18.11
  region: 109.65,-18.31 90.94,-18.31 90.94,-31.1 109.65,-31.1
  region: 109.65,30.91 90.94,30.91 90.94,18.11 109.65,18.11
  region: 159.65,-18.31 140.94,-18.31 140.94,-31.1 159.65,-31.1
  region: 159.65,30.91 140.94,30.91 140.94,18.11 159.65,18.11
  region: 209.65,-18.31 190.94,-18.31 190.94,-31.1 209.65,-31.1
  region: 209.65,30.91 190.94,30.91 190.94,18.11 209.65,18.11
  region: 259.65,-18.31 240.94,-18.31 240.94,-31.1 259.65,-31.1
  region: 259.65,30.91 240.94,30.91 240.94,18.11 259.65,18.11
  region: 309.65,-18.31 290.94,-18.31 290.94,-31.1 309.65,-31.1
  region: 309.65,30.91 290.94,30.91 290.94,18.11 309.65,18.11
  region: 359.65,-18.31 340.94,-18.31 340.94,-31.1 359.65,-31.1
  region: 359.65,30.91 340.94,30.91 340.94,18.11 359.65,18.11
  region: 409.65,-18.31 390.94,-18.31 390.94,-31.1 409.65,-31.1
  region: 409.65,30.91 390.94,30.91 390.94,18.11 409.65,18.11
  region: 459.65,-18.31 440.94,-18.31 440.94,-31.1 459.65,-31.1
  region: 459.65,30.91 440.94,30.91 440.94,18.11 459.65,18.11
  region: 509.65,-18.31 490.94,-18.31 490.94,-31.1 509.65,-31.1
  region: 509.65,30.91 490.94,30.91 490.94,18.11 509.65,18.11
  region: 559.65,-18.31 540.94,-18.31 540.94,-31.1 559.65,-31.1
  region: 559.65,30.91 540.94,30.91 540.94,18.11 559.65,18.11
  region: 609.65,-18.31 590.94,-18.31 590.94,-31.1 609.65,-31.1
  region: 609.65,30.91 590.94,30.91 590.94,18.11 609.65,18.11
  region: -591.93,-82.68 -607.68,-82.68 -607.68,-117.72 -591.93,-117.72
  region: -591.93,118.5 -607.68,118.5 -607.68,83.66 -591.93,83.66
  region: -541.93,-82.68 -557.68,-82.68 -557.68,-117.72 -541.93,-117.72
  region: -541.93,118.5 -557.68,118.5 -557.68,83.66 -541.93,83.66
  region: -491.93,-82.68 -507.68,-82.68 -507.68,-117.72 -491.93,-117.72
  region: -491.93,118.5 -507.68,118.5 -507.68,83.66 -491.93,83.66
  region: -441.93,-82.68 -457.68,-82.68 -457.68,-117.72 -441.93,-117.72
  region: -441.93,118.5 -457.68,118.5 -457.68,83.66 -441.93,83.66
  region: -391.93,-82.68 -407.68,-82.68 -407.68,-117.72 -391.93,-117.72
  region: -391.93,118.5 -407.68,118.5 -407.68,83.66 -391.93,83.66
  region: -341.93,-82.68 -357.68,-82.68 -357.68,-117.72 -341.93,-117.72
  region: -341.93,118.5 -357.68,118.5 -357.68,83.66 -341.93,83.66
  region: -291.93,-82.68 -307.68,-82.68 -307.68,-117.72 -291.93,-117.72
  region: -291.93,118.5 -307.68,118.5 -307.68,83.66 -291.93,83.66
  region: -241.93,-82.68 -257.68,-82.68 -257.68,-117.72 -241.93,-117.72
  region: -241.93,118.5 -257.68,118.5 -257.68,83.66 -241.93,83.66
  region: -191.93,-82.68 -207.68,-82.68 -207.68,-117.72 -191.93,-117.72
  region: -191.93,118.5 -207.68,118.5 -207.68,83.66 -191.93,83.66
  region: -141.93,-82.68 -157.68,-82.68 -157.68,-117.72 -141.93,-117.72
  region: -141.93,118.5 -157.68,118.5 -157.68,83.66 -141.93,83.66
  region: -91.93,-82.68 -107.68,-82.68 -107.68,-117.72 -91.93,-117.72
  region: -91.93,118.5 -107.68,118.5 -107.68,83.66 -91.93,83.66
  region: -41.93,-82.68 -57.68,-82.68 -57.68,-117.72 -41.93,-117.72
  region: -41.93,118.5 -57.68,118.5 -57.68,83.66 -41.93,83.66
  region: 8.07,-82.68 -7.68,-82.68 -7.68,-117.72 8.07,-117.72
  region: 8.07,118.5 -7.68,118.5 -7.68,83.66 8.07,83.66
  region: 58.07,-82.68 42.32,-82.68 42.32,-117.72 58.07,-117.72
  region: 58.07,118.5 42.32,118.5 42.32,83.66 58.07,83.66
  region: 108.07,-82.68 92.32,-82.68 92.32,-117.72 108.07,-117.72
  region: 108.07,118.5 92.32,118.5 92.32,83.66 108.07,83.66
  region: 158.07,-82.68 142.32,-82.68 142.32,-117.72 158.07,-117.72
  region: 158.07,118.5 142.32,118.5 142.32,83.66 158.07,83.66
  region: 208.07,-82.68 192.32,-82.68 192.32,-117.72 208.07,-117.72
  region: 208.07,118.5 192.32,118.5 192.32,83.66 208.07,83.66
  region: 258.07,-82.68 242.32,-82.68 242.32,-117.72 258.07,-117.72
  region: 258.07,118.5 242.32,118.5 242.32,83.66 258.07,83.66
  region: 308.07,-82.68 292.32,-82.68 292.32,-117.72 308.07,-117.72
  region: 308.07,118.5 292.32,118.5 292.32,83.66 308.07,83.66
  region: 358.07,-82.68 342.32,-82.68 342.32,-117.72 358.07,-117.72
  region: 358.07,118.5 342.32,118.5 342.32,83.66 358.07,83.66
  region: 408.07,-82.68 392.32,-82.68 392.32,-117.72 408.07,-117.72
  region: 408.07,118.5 392.32,118.5 392.32,83.66 408.07,83.66
  region: 458.07,-82.68 442.32,-82.68 442.32,-117.72 458.07,-117.72
  region: 458.07,118.5 442.32,118.5 442.32,83.66 458.07,83.66
  region: 508.07,-82.68 492.32,-82.68 492.32,-117.72 508.07,-117.72
  region: 508.07,118.5 492.32,118.5 492.32,83.66 508.07,83.66
  region: 558.07,-82.68 542.32,-82.68 542.32,-117.72 558.07,-117.72
  region: 558.07,118.5 542.32,118.5 542.32,83.66 558.07,83.66
  region: 608.07,-82.68 592.32,-82.68 592.32,-117.72 608.07,-117.72
  region: 608.07,118.5 592.32,118.5 592.32,83.66 608.07,83.66
  lines w4: -722.32,-55.09 -722.32,55.15 ; -719.17,-57.06 ccw(c-719.17,-62.96) -725.07,-62.96 -725.07,-135.8 ccw(c-719.17,-135.8) -719.17,-141.7 -691.61,-141.7 ccw(c-691.61,-135.79) -685.7,-135.8 -685.7,-127.92 ccw(c-691.61,-127.92) -691.61,-122.02 ; -719.17,57.12 cw(c-719.17,63.02) -725.07,63.02 -725.07,135.86 cw(c-719.17,135.86) -719.17,141.76 -691.61,141.76 cw(c-691.61,135.85) -685.7,135.86 -685.7,127.98 cw(c-691.61,127.98) -691.61,122.08 ; -692.79,-122.02 cw(c-692.79,-116.11) -692.79,-110.2 ; -692.79,110.27 cw(c-692.79,116.17) -692.79,122.08 ; -690.82,-110.2 -682.95,-102.33 -682.95,102.39 -690.82,110.27 ; -678.62,-82.65 678.86,-82.65 ; -678.62,82.71 678.86,82.71 ; 691.07,-110.2 683.19,-102.33 683.19,102.39 691.07,110.27 ; 691.85,-122.02 ccw(c691.85,-127.92) 685.95,-127.92 685.95,-135.8 ccw(c691.85,-135.8) 691.85,-141.7 719.41,-141.7 ccw(c719.41,-135.79) 725.32,-135.8 725.32,-62.96 ccw(c719.41,-62.97) 719.41,-57.06 ; 691.85,122.08 cw(c691.85,127.98) 685.95,127.98 685.95,135.86 cw(c691.85,135.86) 691.85,141.76 719.41,141.76 cw(c719.41,135.85) 725.32,135.86 725.32,63.02 cw(c719.41,63.02) 719.41,57.12 ; 693.04,-122.02 ccw(c693.04,-116.11) 693.04,-110.2 ; 693.04,110.27 ccw(c693.04,116.17) 693.04,122.08 ; 722.56,-55.09 722.56,55.15

## 154821 [mil]
pads (72):
  rect 31.5x43.31 smd: A1(-825,108.86) A2(-775,108.86) A3(-725,108.86) A4(-675,108.86) A5(-625,108.86) A6(-575,108.86) A7(-525,108.86) A8(-475,108.86) A9(-425,108.86) A10(-375,108.86) A11(-325,108.86) A12(-275,108.86) A13(-225,108.86) A14(-175,108.86) A15(-125,108.86) A16(-75,108.86) A17(-25,108.86) A18(25,108.86) A19(75,108.86) A20(125,108.86) A21(175,108.86) A22(225,108.86) A23(275,108.86) A24(325,108.86) A25(375,108.86) A26(425,108.86) A27(475,108.86) A28(525,108.86) A29(575,108.86) A30(625,108.86) A31(675,108.86) A32(725,108.86) A33(775,108.86) A34(825,108.86) B1(-825,-107.87) B2(-775,-107.87) B3(-725,-107.87) B4(-675,-107.87) B5(-625,-107.87) B6(-575,-107.87) B7(-525,-107.87) B8(-475,-107.87) B9(-425,-107.87) B10(-375,-107.87) B11(-325,-107.87) B12(-275,-107.87) B13(-225,-107.87) B14(-175,-107.87) B15(-125,-107.87) B16(-75,-107.87) B17(-25,-107.87) B18(25,-107.87) B19(75,-107.87) B20(125,-107.87) B21(175,-107.87) B22(225,-107.87) B23(275,-107.87) B24(325,-107.87) B25(375,-107.87) B26(425,-107.87) B27(475,-107.87) B28(525,-107.87) B29(575,-107.87) B30(625,-107.87) B31(675,-107.87) B32(725,-107.87) B33(775,-107.87) B34(825,-107.87)
  rect 47.24x98.43 smd: M1(-923.62,100.39) M2(-923.62,-100.39) M3(923.62,-100.39) M4(923.62,100.39)
Top Overlay:
  circle w0.04: c912.13,0.32 r31.5
  circle w0.04: c-911.87,0.32 r31.5
  lines w4: -868.58,5.94 -888.23,5.94 ; -868.54,5.94 -868.54,64 868.43,64 ; -800.47,82.71 -772.91,82.71 ; 868.82,64.01 868.82,5.94 888.51,5.94 888.51,-63.94 ; 880.6,75.81 880.6,17.75 900.28,17.75 900.32,-75.76 ; 880.63,75.82 -880.39,75.82 -880.39,17.75 -900.04,17.75 -900.04,-75.75 899.53,-75.75 ; 888.47,-63.94 -888.23,-63.94 -888.23,5.94 ; -888.23,5.94 -888.26,5.94
Mechanical 16:
  drawing of 178 lines, arcs and shapes, not listed

## 154822 [mil]
pads (84):
  rect 31.5x43.31 smd: A1(-975,108.86) A2(-925,108.86) A3(-875,108.86) A4(-825,108.86) A5(-775,108.86) A6(-725,108.86) A7(-675,108.86) A8(-625,108.86) A9(-575,108.86) A10(-525,108.86) A11(-475,108.86) A12(-425,108.86) A13(-375,108.86) A14(-325,108.86) A15(-275,108.86) A16(-225,108.86) A17(-175,108.86) A18(-125,108.86) A19(-75,108.86) A20(-25,108.86) A21(25,108.86) A22(75,108.86) A23(125,108.86) A24(175,108.86) A25(225,108.86) A26(275,108.86) A27(325,108.86) A28(375,108.86) A29(425,108.86) A30(475,108.86) A31(525,108.86) A32(575,108.86) A33(625,108.86) A34(675,108.86) A35(725,108.86) A36(775,108.86) A37(825,108.86) A38(875,108.86) A39(925,108.86) A40(975,108.86) B1(-975,-107.87) B2(-925,-107.87) B3(-875,-107.87) B4(-825,-107.87) B5(-775,-107.87) B6(-725,-107.87) B7(-675,-107.87) B8(-625,-107.87) B9(-575,-107.87) B10(-525,-107.87) B11(-475,-107.87) B12(-425,-107.87) B13(-375,-107.87) B14(-325,-107.87) B15(-275,-107.87) B16(-225,-107.87) B17(-175,-107.87) B18(-125,-107.87) B19(-75,-107.87) B20(-25,-107.87) B21(25,-107.87) B22(75,-107.87) B23(125,-107.87) B24(175,-107.87) B25(225,-107.87) B26(275,-107.87) B27(325,-107.87) B28(375,-107.87) B29(425,-107.87) B30(475,-107.87) B31(525,-107.87) B32(575,-107.87) B33(625,-107.87) B34(675,-107.87) B35(725,-107.87) B36(775,-107.87) B37(825,-107.87) B38(875,-107.87) B39(925,-107.87) B40(975,-107.87)
  rect 47.24x98.43 smd: M1(-1073.62,100.39) M2(-1073.62,-100.39) M3(1073.62,-100.39) M4(1073.62,100.39)
Top Overlay:
  circle w0.04: c-1061.87,0.32 r31.5
  circle w0.04: c1061.87,-0.32 r31.5
  lines w4: -1018.58,5.94 -1038.23,5.94 ; -1018.54,5.94 -1018.54,64 1018.43,64 ; -950.47,82.71 -922.91,82.71 ; 1018.82,64.01 1018.82,5.94 1038.51,5.94 1038.51,-63.94 ; 1030.6,75.81 1030.6,17.75 1050.28,17.75 1050.32,-75.76 ; 1030.63,75.82 -1030.39,75.82 -1030.39,17.75 -1050.04,17.75 -1050.04,-75.75 1049.53,-75.75 ; 1038.47,-63.94 -1038.23,-63.94 -1038.23,5.94 ; -1038.23,5.94 -1038.26,5.94
Mechanical 16:
  drawing of 202 lines, arcs and shapes, not listed

## M-064319 [mil]
pads (52):
  round 62.99 hole 62.99: 1(-687.01,0) 1(687.01,0)
  rect 31.5x43.31 smd: A1(600,-108.27) A2(550,-108.27) A3(500,-108.27) A4(450,-108.27) A5(400,-108.27) A6(350,-108.27) A7(300,-108.27) A8(250,-108.27) A9(200,-108.27) A10(150,-108.27) A11(100,-108.27) A12(50,-108.27) A13(0,-108.27) A14(-50,-108.27) A15(-100,-108.27) A16(-150,-108.27) A17(-200,-108.27) A18(-250,-108.27) A19(-300,-108.27) A20(-350,-108.27) A21(-400,-108.27) A22(-450,-108.27) A23(-500,-108.27) A24(-550,-108.27) A25(-600,-108.27) B1(600,108.27) B2(550,108.27) B3(500,108.27) B4(450,108.27) B5(400,108.27) B6(350,108.27) B7(300,108.27) B8(250,108.27) B9(200,108.27) B10(150,108.27) B11(100,108.27) B12(50,108.27) B13(0,108.27) B14(-50,108.27) B15(-100,108.27) B16(-150,108.27) B17(-200,108.27) B18(-250,108.27) B19(-300,108.27) B20(-350,108.27) B21(-400,108.27) B22(-450,108.27) B23(-500,108.27) B24(-550,108.27) B25(-600,108.27)
Top Layer:
  rectangle: 675,-151.57 722.64,-51.18
  rectangle: 675,51.18 722.64,151.57
  rectangle: -722.64,51.18 -675,151.57
  rectangle: -722.64,-151.57 -675,-51.18
Top Overlay:
  rectangle: 340.16,32.28 359.84,51.97
  rectangle: 390.16,32.28 409.84,51.97
  rectangle: 440.16,32.28 459.84,51.97
  rectangle: 490.16,32.28 509.84,51.97
  rectangle: 540.16,32.28 559.84,51.97
  rectangle: 590.16,32.28 609.84,51.97
  rectangle: 340.16,-34.84 359.84,-15.16
  rectangle: 390.16,-34.84 409.84,-15.16
  rectangle: 440.16,-34.84 459.84,-15.16
  rectangle: 490.16,-34.84 509.84,-15.16
  rectangle: 540.16,-34.84 559.84,-15.16
  rectangle: 590.16,-34.84 609.84,-15.16
  rectangle: 40.16,32.28 59.84,51.97
  rectangle: 90.16,32.28 109.84,51.97
  rectangle: 140.16,32.28 159.84,51.97
  rectangle: 190.16,32.28 209.84,51.97
  rectangle: 240.16,32.28 259.84,51.97
  rectangle: 290.16,32.28 309.84,51.97
  rectangle: 40.16,-34.84 59.84,-15.16
  rectangle: 90.16,-34.84 109.84,-15.16
  rectangle: 140.16,-34.84 159.84,-15.16
  rectangle: 190.16,-34.84 209.84,-15.16
  rectangle: 240.16,-34.84 259.84,-15.16
  rectangle: 290.16,-34.84 309.84,-15.16
  rectangle: -9.84,32.28 9.84,51.97
  rectangle: -9.84,-34.84 9.84,-15.16
  rectangle: -309.84,32.28 -290.16,51.97
  rectangle: -259.84,32.28 -240.16,51.97
  rectangle: -209.84,32.28 -190.16,51.97
  rectangle: -159.84,32.28 -140.16,51.97
  rectangle: -109.84,32.28 -90.16,51.97
  rectangle: -59.84,32.28 -40.16,51.97
  rectangle: -309.84,-34.84 -290.16,-15.16
  rectangle: -259.84,-34.84 -240.16,-15.16
  rectangle: -209.84,-34.84 -190.16,-15.16
  rectangle: -159.84,-34.84 -140.16,-15.16
  rectangle: -109.84,-34.84 -90.16,-15.16
  rectangle: -59.84,-34.84 -40.16,-15.16
  rectangle: -609.84,32.28 -590.16,51.97
  rectangle: -559.84,32.28 -540.16,51.97
  rectangle: -509.84,32.28 -490.16,51.97
  rectangle: -459.84,32.28 -440.16,51.97
  rectangle: -409.84,32.28 -390.16,51.97
  rectangle: -359.84,32.28 -340.16,51.97
  rectangle: -609.84,-34.84 -590.16,-15.16
  rectangle: -559.84,-34.84 -540.16,-15.16
  rectangle: -509.84,-34.84 -490.16,-15.16
  rectangle: -459.84,-34.84 -440.16,-15.16
  rectangle: -409.84,-34.84 -390.16,-15.16
  rectangle: -359.84,-34.84 -340.16,-15.16
  lines w8: -663.98,-137.8 663.98,-137.8 ; -663.98,137.8 663.98,137.8 ; -663.98,0 -644.29,0 -644.29,-55.12 644.29,-55.12 644.29,0 663.98,0 663.98,70.87 -663.98,70.87 -663.98,0
Top Paste:
  rectangle: -721.06,52.66 -676.28,150.1
  rectangle: -721.06,-150.1 -676.28,-52.66
  rectangle: 676.28,-150.59 721.06,-53.15
  rectangle: 676.28,52.66 721.06,150.1
Top Solder:
  rectangle: -724.51,49.7 -673.82,153.05
  rectangle: -724.02,-153.05 -673.33,-49.7
  rectangle: 673.33,-153.05 724.02,-49.7
  rectangle: 673.33,49.7 724.02,153.05
Mechanical 16:
  lines w8: -663.98,-137.8 -719.09,-137.8 -719.09,137.8 -663.98,137.8 ; 663.98,-137.8 719.09,-137.8 719.09,137.8 663.98,137.8